# Altium integrated library TCA1A226M8R.IntLib: 1 symbol
Pins are listed as number, name and electrical type; pins without a type are passive.

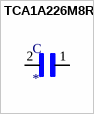
[diagram p0: symbol TCA1A226M8R]

## TCA1A226M8R
designator C
22ÂµF Molded Tantalum Capacitors 10V 1206 (3216 Metric); MF: Rohm; MP: TCA1A226M8R; Price: None; Availability: Unavailable; SnapEDA_Link: https://www.snapeda.com/parts/TCA1A226M8R/Rohm/view-part/1738219/?ref=snap; Value: *; Package: 1206 Rohm
footprint RESC3216X65N
pins: 1, 2